# EAGLE library part ATUC64 (library Components)
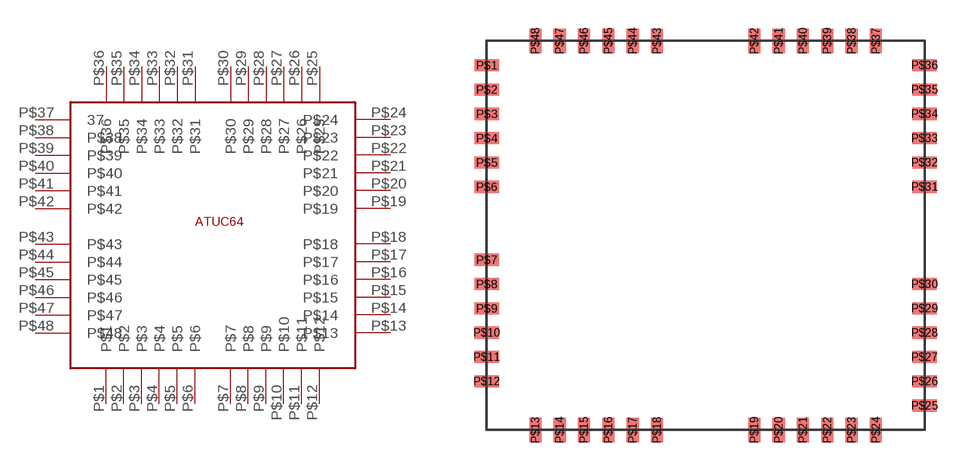
[diagram p1: symbol with the pads of 48_DEF; footprint 48_DEF]

Designator prefix -

## ATUC64  [48_DEF]
P$1  P$1
P$2  P$2
P$3  P$3
P$4  P$4
P$5  P$5
P$6  P$6
P$7  P$7
P$8  P$8
P$9  P$9
P$10  P$10
P$11  P$11
P$12  P$12
P$13  P$13
P$14  P$14
P$15  P$15
P$16  P$16
P$17  P$17
P$18  P$18
P$19  P$19
P$20  P$20
P$21  P$21
P$22  P$22
P$23  P$23
P$24  P$24
P$25  P$25
P$26  P$26
P$27  P$27
P$28  P$28
P$29  P$29
P$30  P$30
P$31  P$31
P$32  P$32
P$33  P$33
P$34  P$34
P$35  P$35
P$36  P$36
P$37  37
P$38  P$38
P$39  P$39
P$40  P$40
P$41  P$41
P$42  P$42
P$43  P$43
P$44  P$44
P$45  P$45
P$46  P$46
P$47  P$47
P$48  P$48

## Footprint 48_DEF (pad centres in mm)
smd 1.27 x 0.635: P$1 -11.43,8.89; P$2 -11.43,7.62; P$3 -11.43,6.35; P$4 -11.43,5.08; P$5 -11.43,3.81; P$6 -11.43,2.54; P$7 -11.43,-1.27; P$8 -11.43,-2.54; P$9 -11.43,-3.81; P$10 -11.43,-5.08; P$11 -11.43,-6.35; P$12 -11.43,-7.62; P$25 11.43,-8.89; P$26 11.43,-7.62; P$27 11.43,-6.35; P$28 11.43,-5.08; P$29 11.43,-3.81; P$30 11.43,-2.54; P$31 11.43,2.54; P$32 11.43,3.81; P$33 11.43,5.08; P$34 11.43,6.35; P$35 11.43,7.62; P$36 11.43,8.89
smd 0.635 x 1.27: P$13 -8.89,-10.16; P$14 -7.62,-10.16; P$15 -6.35,-10.16; P$16 -5.08,-10.16; P$17 -3.81,-10.16; P$18 -2.54,-10.16; P$19 2.54,-10.16; P$20 3.81,-10.16; P$21 5.08,-10.16; P$22 6.35,-10.16; P$23 7.62,-10.16; P$24 8.89,-10.16; P$37 8.89,10.16; P$38 7.62,10.16; P$39 6.35,10.16; P$40 5.08,10.16; P$41 3.81,10.16; P$42 2.54,10.16; P$43 -2.54,10.16; P$44 -3.81,10.16; P$45 -5.08,10.16; P$46 -6.35,10.16; P$47 -7.62,10.16; P$48 -8.89,10.16